# EAGLE library part POLOLU-MD09B (library IAD-Library)
The Pololu MD09B stepper controller.
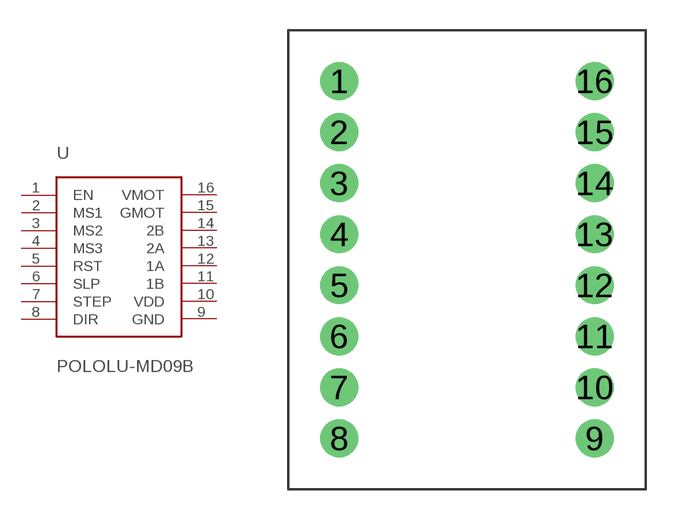
[diagram p5: symbol with the pads of POLOLU-MD09B; footprint POLOLU-MD09B]

Designator prefix -

## POLOLU-MD09B  [POLOLU-MD09B]
1  EN
2  MS1
3  MS2
4  MS3
5  RST
6  SLP
7  STEP
8  DIR
9  GND
10  VDD
11  1B
12  1A
13  2A
14  2B
15  GMOT
16  VMOT

## Footprint POLOLU-MD09B (pad centres in mm)
The Pololu MD09B stepper controller.
drill 1.016 pad 1.88: 1 -6.35,8.89; 2 -6.35,6.35; 3 -6.35,3.81; 4 -6.35,1.27; 5 -6.35,-1.27; 6 -6.35,-3.81; 7 -6.35,-6.35; 8 -6.35,-8.89; 9 6.35,-8.89; 10 6.35,-6.35; 11 6.35,-3.81; 12 6.35,-1.27; 13 6.35,1.27; 14 6.35,3.81; 15 6.35,6.35; 16 6.35,8.89